# Altium footprint library SnapEDApcb.PcbLib: 1 footprints
Each footprint in its own frame and in the unit in brackets; x right, y up, seen from the top. Pads: shape width x height; smd on the part's side, far side on the other; paste and mask are expansions set on the pad; w line width, h text height; cw(c..) or ccw(c..) is an arc to the next point about the centre after c.
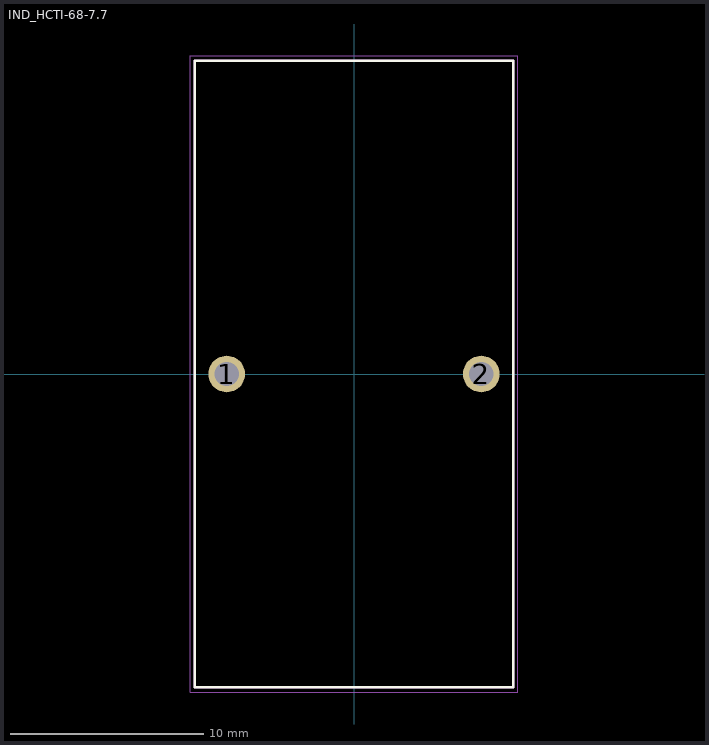
[diagram p0: the footprint, top view; thin cyan lines are the x and y axes]

## IND_HCTI-68-7.7 [mil]
pads (2):
  round 75 hole 50: 1(-260,0) 2(260,0)
Top Overlay:
  lines w5: -325,-640 -325,640 325,640 325,-640 -325,-640
Mechanical 13:
  lines w5: -325,-640 -325,640 325,640 325,-640 -325,-640
Mechanical 15:
  lines w1.97: -334.84,-649.84 -334.84,649.84 334.84,649.84 334.84,-649.84 -334.84,-649.84